# EAGLE library part TPS61230A (library TPS61230A)
TPS61230A
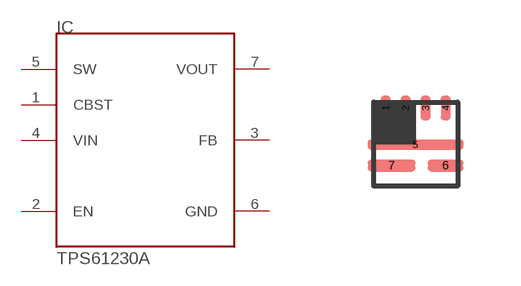
[diagram p0: symbol with the pads of VQFN; footprint VQFN]

Designator prefix IC

## TPS61230AVQFN  [VQFN]
1  CBST  in
2  EN  in
3  FB  in
4  VIN  pwr
5  SW  pas
6  GND  pwr
7  VOUT  pwr

## Footprint VQFN (pad centres in mm)
smd 0.25 x 0.6: 1 -0.75,0.9; 2 -0.25,0.9; 3 0.25,0.9; 4 0.75,0.9
smd 2.4 x 0.25: 5 0,-0.015
smd 0.9 x 0.3: 6 0.75,-0.54
smd 1.2 x 0.3: 7 -0.6,-0.54